# Altium schematic symbol library FPGA_Xilinx_Virtex7.SchLib: 34 symbols (part 13 of 26)
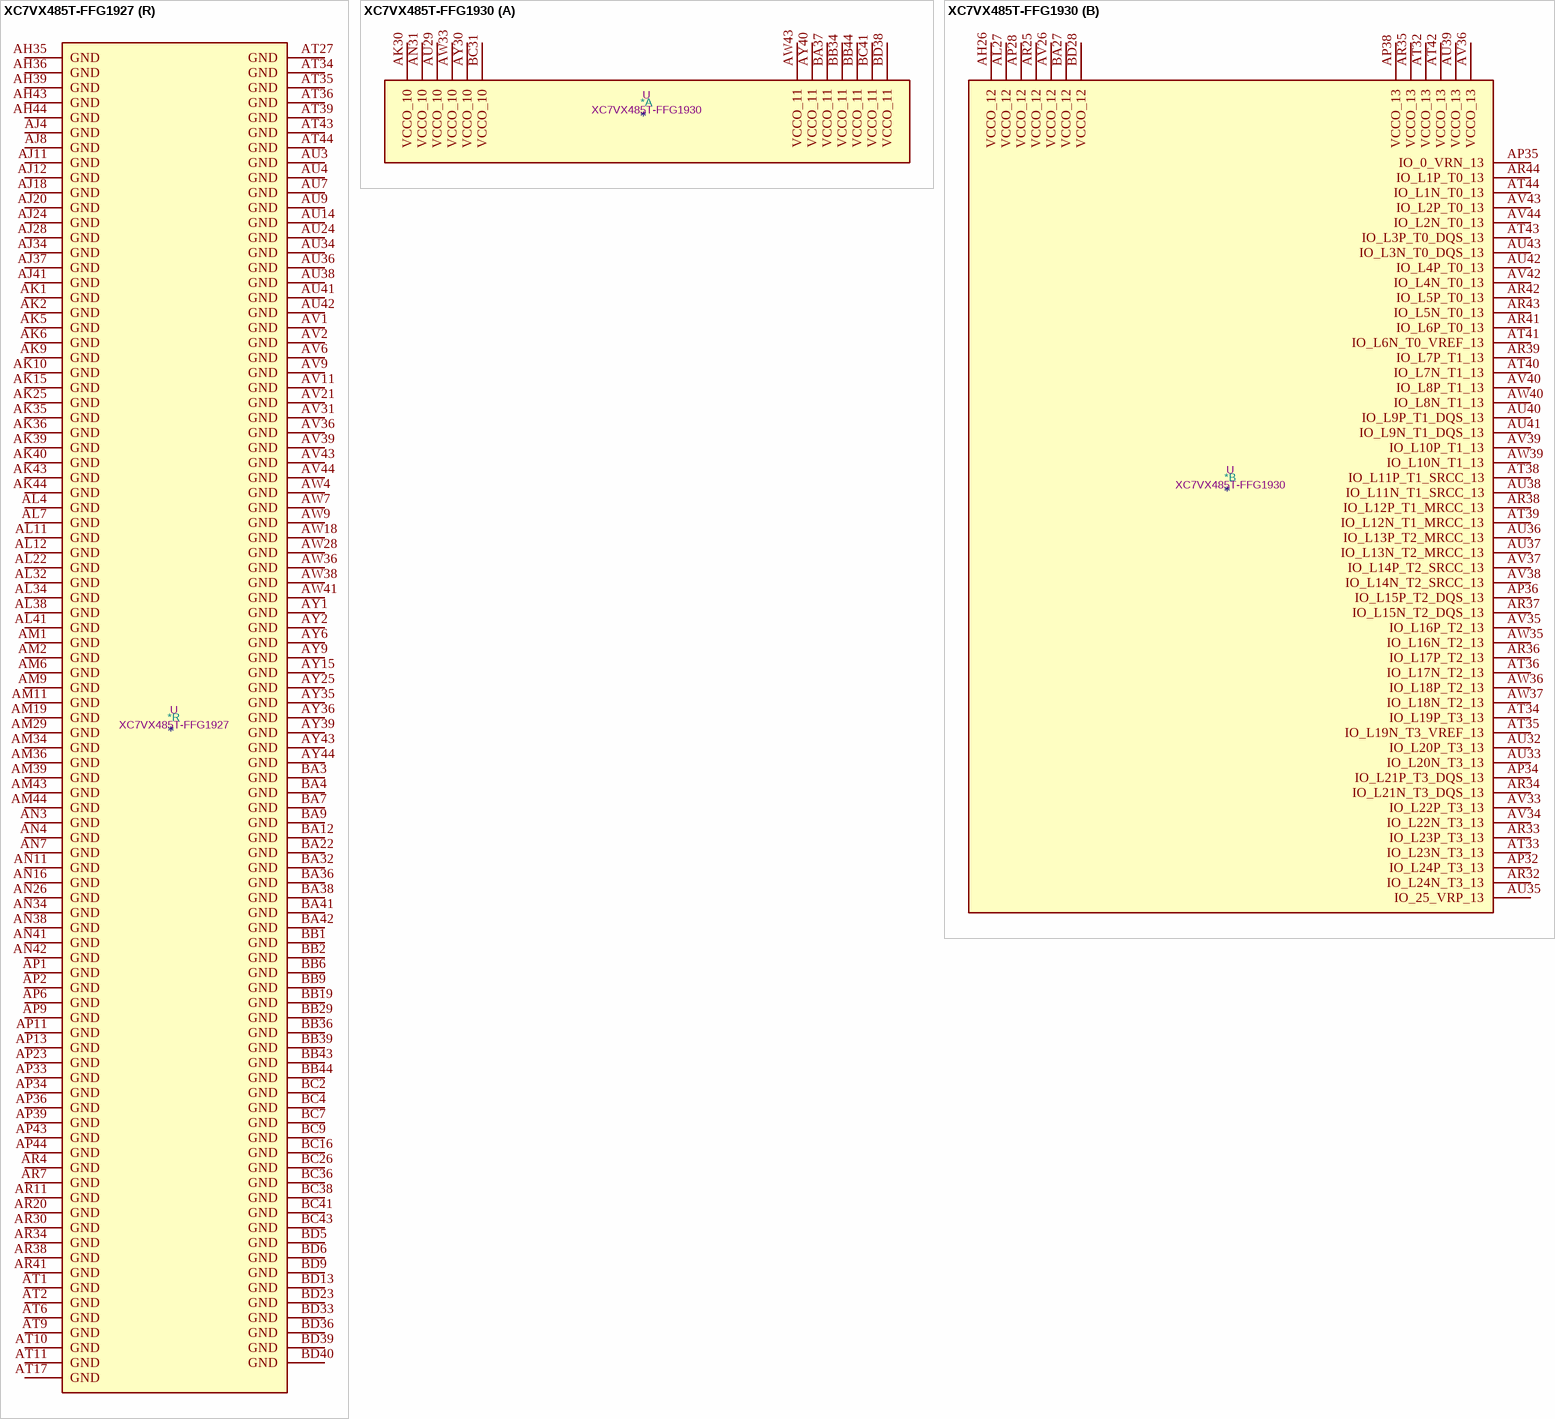
[diagram p184: symbols XC7VX485T-FFG1927 to XC7VX485T-FFG1930]

## XC7VX485T-FFG1927
designator *  value XC7VX485T-FFG1927  Reference: U
Virtex 7 XT 485 XC7VX485T-FFG1927; ki_keywords: FPGA; Description_: Virtex 7 XT 485 XC7VX485T-FFG1927
part A pins: AJ23 VCCO_15, AJ25 IO_L24P_T3_RS1_15, AJ26 IO_L24N_T3_RS0_15, AJ29 IO_L23P_T3_A03_D19_14, AK23 IO_L21P_T3_DQS_15, AK24 IO_L21N_T3_DQS_A18_15, AK26 IO_L22P_T3_A17_15, AK27 IO_L21P_T3_DQS_14, AK28 IO_L21N_T3_DQS_A06_D22_14, AK29 IO_L23N_T3_A02_D18_14, AL23 IO_L19P_T3_A22_15, AL24 IO_L23P_T3_FOE_B_15, AL25 IO_L23N_T3_FWE_B_15, AL26 IO_L22N_T3_A16_15, AL27 VCCO_14, AL28 IO_L24P_T3_A01_D17_14, AL29 IO_L24N_T3_A00_D16_14, AM23 IO_L19N_T3_A21_VREF_15, AM24 VCCO_15, AM25 IO_L20P_T3_A20_15, AM26 IO_L20N_T3_A19_15, AM27 IO_L22P_T3_A05_D21_14, AM28 IO_L22N_T3_A04_D20_14, AM30 IO_L20P_T3_A08_D24_14, AN23 IO_L15P_T2_DQS_15, AN24 IO_L15N_T2_DQS_ADV_B_15, AN25 IO_L18P_T2_A24_15, AN27 IO_L15P_T2_DQS_RDWR_B_14, AN28 IO_L19P_T3_A10_D26_14, AN29 IO_L19N_T3_A09_D25_VREF_14, AN30 IO_L20N_T3_A07_D23_14, AP24 IO_L17P_T2_A26_15, AP25 IO_L17N_T2_A25_15, AP26 IO_L18N_T2_A23_15, AP27 IO_L15N_T2_DQS_DOUT_CSO_B_14, AP28 VCCO_14, AP29 IO_L17P_T2_A14_D30_14, AP30 IO_L17N_T2_A13_D29_14, AR24 IO_0_VRN_15, AR25 VCCO_15, AR26 IO_25_VRP_15, AR27 IO_25_VRP_14, AR28 IO_L18P_T2_A12_D28_14, AR29 IO_L18N_T2_A11_D27_14, AT23 IO_L13P_T2_MRCC_15, AT24 IO_L14P_T2_SRCC_15, AT25 IO_L14N_T2_SRCC_15, AT26 IO_L16P_T2_A28_15, AT28 IO_L16P_T2_CSI_B_14, AT29 IO_L16N_T2_A15_D31_14, AT30 IO_0_VRN_14, AU23 IO_L13N_T2_MRCC_15, AU25 IO_L12P_T1_MRCC_15, AU26 IO_L12N_T1_MRCC_15, AU27 IO_L16N_T2_A27_15, AU28 IO_L14P_T2_SRCC_14, AU29 VCCO_14, AU30 IO_L13P_T2_MRCC_14, AV23 IO_L11P_T1_SRCC_15, AV24 IO_L11N_T1_SRCC_15, AV25 IO_L9P_T1_DQS_AD3P_15, AV26 VCCO_15, AV27 IO_L12P_T1_MRCC_14, AV28 IO_L12N_T1_MRCC_14, AV29 IO_L14N_T2_SRCC_14, AV30 IO_L13N_T2_MRCC_14, AW23 VCCO_15, AW24 IO_L10P_T1_AD11P_15, AW25 IO_L9N_T1_DQS_AD3N_15, AW26 IO_L7P_T1_AD2P_15, AW27 IO_L8P_T1_D11_14, AW29 IO_L7P_T1_D09_14, AW30 IO_L11P_T1_SRCC_14, AW31 IO_L11N_T1_SRCC_14, AY23 IO_L8P_T1_AD10P_15, AY24 IO_L10N_T1_AD11N_15, AY26 IO_L7N_T1_AD2N_15, AY27 IO_L8N_T1_D12_14, AY28 IO_L10P_T1_D14_14, AY29 IO_L7N_T1_D10_14, AY30 VCCO_14, AY31 IO_L9P_T1_DQS_14, BA23 IO_L8N_T1_AD10N_15, BA24 IO_L6P_T0_15, BA25 IO_L6N_T0_VREF_15, BA26 IO_L5P_T0_AD9P_15, BA27 VCCO_14, BA28 IO_L10N_T1_D15_14, BA29 IO_L6P_T0_FCS_B_14, BA30 IO_L6N_T0_D08_VREF_14, BA31 IO_L9N_T1_DQS_D13_14, BB23 IO_L2P_T0_AD8P_15, BB24 VCCO_15, BB25 IO_L3P_T0_DQS_AD1P_15, BB26 IO_L5N_T0_AD9N_15, BB27 IO_L3P_T0_DQS_PUDC_B_14, BB28 IO_L3N_T0_DQS_EMCCLK_14, BB30 IO_L4P_T0_D04_14, BC23 IO_L2N_T0_AD8N_15, BC24 IO_L4P_T0_15, BC25 IO_L3N_T0_DQS_AD1N_15, BC27 IO_L1P_T0_D00_MOSI_14, BC28 IO_L5P_T0_D06_14, BC29 IO_L5N_T0_D07_14, BC30 IO_L4N_T0_D05_14, BD24 IO_L4N_T0_15, BD25 IO_L1P_T0_AD0P_15, BD26 IO_L1N_T0_AD0N_15, BD27 IO_L1N_T0_D01_DIN_14, BD28 VCCO_14, BD29 IO_L2P_T0_D02_14, BD30 IO_L2N_T0_D03_14
part B pins: A23 IO_L1N_T0_17, A24 IO_L4P_T0_17, A25 IO_L4N_T0_17, AJ30 IO_L2P_T0_16, AJ31 IO_L2N_T0_16, AJ32 IO_L4P_T0_16, AK30 VCCO_16, AK31 IO_L3P_T0_DQS_16, AK32 IO_L4N_T0_16, AK33 IO_L1P_T0_16, AL30 IO_L5P_T0_16, AL31 IO_L3N_T0_DQS_16, AL33 IO_L1N_T0_16, AM31 IO_L5N_T0_16, AM32 IO_L6P_T0_16, AM33 IO_L6N_T0_VREF_16, AN31 VCCO_16, AN32 IO_L7P_T1_16, AN33 IO_L7N_T1_16, AP31 IO_L9P_T1_DQS_16, AP32 IO_L9N_T1_DQS_16, AR31 IO_L10P_T1_16, AR32 IO_L10N_T1_16, AR33 IO_L8P_T1_16, AT31 IO_25_VRP_16, AT32 VCCO_16, AT33 IO_L8N_T1_16, AU31 IO_L11P_T1_SRCC_16, AU32 IO_L11N_T1_SRCC_16, AU33 IO_L12P_T1_MRCC_16, AU35 IO_0_VRN_16, AV32 IO_L13P_T2_MRCC_16, AV33 IO_L12N_T1_MRCC_16, AV34 IO_L14P_T2_SRCC_16, AV35 IO_L14N_T2_SRCC_16, AW32 IO_L13N_T2_MRCC_16, AW33 VCCO_16, AW34 IO_L15P_T2_DQS_16, AW35 IO_L15N_T2_DQS_16, AY32 IO_L18P_T2_16, AY33 IO_L16P_T2_16, AY34 IO_L16N_T2_16, B23 IO_L1P_T0_17, B24 VCCO_17, B25 IO_L2N_T0_17, BA33 IO_L18N_T2_16, BA34 IO_L17P_T2_16, BA35 IO_L17N_T2_16, BB31 IO_L19P_T3_16, BB32 IO_L19N_T3_VREF_16, BB33 IO_L22P_T3_16, BB34 VCCO_16, BB35 IO_L20P_T3_16, BC31 VCCO_16, BC32 IO_L21P_T3_DQS_16, BC33 IO_L21N_T3_DQS_16, BC34 IO_L22N_T3_16, BC35 IO_L20N_T3_16, BD31 IO_L23P_T3_16, BD32 IO_L23N_T3_16, BD34 IO_L24P_T3_16, BD35 IO_L24N_T3_16, C23 IO_L3P_T0_DQS_17, C24 IO_L3N_T0_DQS_17, C25 IO_L2P_T0_17, D24 IO_L5P_T0_17, D25 IO_L5N_T0_17, E23 IO_L6P_T0_17, E24 IO_L6N_T0_VREF_17, E25 VCCO_17, F23 IO_L7N_T1_17, F24 IO_L8P_T1_17, F25 IO_L8N_T1_17, G23 IO_L7P_T1_17, G25 IO_L10P_T1_17, G26 IO_L10N_T1_17, H23 IO_L9P_T1_DQS_17, H24 IO_L9N_T1_DQS_17, H25 IO_L11N_T1_SRCC_17, H26 VCCO_17, J23 VCCO_17, J24 IO_L11P_T1_SRCC_17, J25 IO_L12P_T1_MRCC_17, J26 IO_L12N_T1_MRCC_17, K23 IO_L13P_T2_MRCC_17, K24 IO_L13N_T2_MRCC_17, K26 IO_L15N_T2_DQS_17, L23 IO_L18N_T2_17, L24 IO_L14P_T2_SRCC_17, L25 IO_L14N_T2_SRCC_17, L26 IO_L15P_T2_DQS_17, M23 IO_L18P_T2_17, M24 VCCO_17, M25 IO_L17N_T2_17, M26 IO_0_VRN_17, N23 IO_L16P_T2_17, N24 IO_L16N_T2_17, N25 IO_L17P_T2_17, P24 IO_25_VRP_17, P25 IO_L20P_T3_17, P26 IO_L20N_T3_17, R23 IO_L24P_T3_17, R24 IO_L24N_T3_17, R25 VCCO_17, R26 IO_L22N_T3_17, T23 IO_L23N_T3_17, T24 IO_L19P_T3_17, T25 IO_L19N_T3_VREF_17, T26 IO_L22P_T3_17, U23 IO_L23P_T3_17, U25 IO_L21P_T3_DQS_17, U26 IO_L21N_T3_DQS_17
part C pins: A26 IO_L5N_T0_19, A27 VCCO_19, A28 IO_L1P_T0_19, A29 IO_L1N_T0_19, A30 IO_L3P_T0_DQS_18, A31 IO_L3N_T0_DQS_18, A33 IO_L2N_T0_18, B26 IO_L5P_T0_19, B27 IO_L3N_T0_DQS_19, B28 IO_L4N_T0_19, B30 IO_L1N_T0_18, B31 IO_L5P_T0_18, B32 IO_L5N_T0_18, B33 IO_L2P_T0_18, C27 IO_L3P_T0_DQS_19, C28 IO_L4P_T0_19, C29 IO_L2N_T0_19, C30 IO_L1P_T0_18, C31 VCCO_18, C32 IO_L4P_T0_18, C33 IO_L4N_T0_18, D26 IO_L6P_T0_19, D27 IO_L6N_T0_VREF_19, D28 VCCO_19, D29 IO_L2P_T0_19, D30 IO_L6P_T0_18, D31 IO_L6N_T0_VREF_18, D32 IO_L7N_T1_18, E26 IO_L8N_T1_19, E27 IO_L10P_T1_19, E28 IO_L10N_T1_19, E29 IO_L9N_T1_DQS_19, E31 IO_L7P_T1_18, E32 IO_L8P_T1_18, E33 IO_L8N_T1_18, F26 IO_L8P_T1_19, F28 IO_L7N_T1_19, F29 IO_L9P_T1_DQS_19, F30 IO_L9P_T1_DQS_18, F31 IO_L9N_T1_DQS_18, F32 VCCO_18, F33 IO_L10N_T1_18, G27 IO_L11N_T1_SRCC_19, G28 IO_L7P_T1_19, G29 VCCO_19, G30 IO_L12N_T1_MRCC_18, G31 IO_L11P_T1_SRCC_18, G32 IO_L11N_T1_SRCC_18, G33 IO_L10P_T1_18, H27 IO_L11P_T1_SRCC_19, H28 IO_L12P_T1_MRCC_19, H29 IO_L12N_T1_MRCC_19, H30 IO_L12P_T1_MRCC_18, H32 IO_L13P_T2_MRCC_18, H33 IO_L13N_T2_MRCC_18, J27 IO_L13N_T2_MRCC_19, J29 IO_L14N_T2_SRCC_19, J30 IO_L14P_T2_SRCC_18, J31 IO_L14N_T2_SRCC_18, J32 IO_L16N_T2_18, J33 VCCO_18, K27 IO_L13P_T2_MRCC_19, K28 IO_L14P_T2_SRCC_19, K29 IO_L16N_T2_19, K30 VCCO_18, K31 IO_L15N_T2_DQS_18, K32 IO_L16P_T2_18, K33 IO_L18N_T2_18, L27 VCCO_19, L28 IO_L16P_T2_19, L29 IO_L18N_T2_19, L30 IO_0_VRN_18, L31 IO_L15P_T2_DQS_18, L33 IO_L18P_T2_18, M27 IO_0_VRN_19, M28 IO_L18P_T2_19, M30 IO_L15N_T2_DQS_19, M31 IO_L17P_T2_18, M32 IO_L17N_T2_18, M33 IO_L20N_T3_18, N27 IO_25_VRP_19, N28 IO_L17P_T2_19, N29 IO_L17N_T2_19, N30 IO_L15P_T2_DQS_19, N31 VCCO_18, N32 IO_L22N_T3_18, N33 IO_L20P_T3_18, P27 IO_L23N_T3_19, P28 VCCO_19, P29 IO_L19P_T3_19, P30 IO_L19N_T3_VREF_19, P31 IO_L22P_T3_18, P32 IO_L19N_T3_VREF_18, R27 IO_L23P_T3_19, R28 IO_L21P_T3_DQS_19, R29 IO_L21N_T3_DQS_19, R31 IO_L21N_T3_DQS_18, R32 IO_L19P_T3_18, R33 IO_L24N_T3_18, T28 IO_L20P_T3_19, T29 IO_L20N_T3_19, T30 IO_L22N_T3_19, T31 IO_L21P_T3_DQS_18, T32 VCCO_18, T33 IO_L24P_T3_18, U27 IO_L24P_T3_19, U28 IO_L24N_T3_19, U29 VCCO_19, U30 IO_L22P_T3_19, U31 IO_25_VRP_18, U32 IO_L23P_T3_18, U33 IO_L23N_T3_18
part D pins: AJ16 IO_L23P_T3_34, AJ21 IO_L20N_T3_35, AJ22 IO_L20P_T3_35, AK16 IO_L23N_T3_34, AK17 IO_25_VRP_34, AK18 IO_L21P_T3_DQS_34, AK19 IO_L24P_T3_35, AK20 VCCO_35, AK21 IO_L22N_T3_35, AK22 IO_L22P_T3_35, AL15 IO_L24N_T3_34, AL16 IO_L24P_T3_34, AL17 VCCO_34, AL18 IO_L21N_T3_DQS_34, AL19 IO_L24N_T3_35, AL20 IO_L23N_T3_35, AL21 IO_L23P_T3_35, AM15 IO_L20P_T3_34, AM16 IO_L22N_T3_34, AM17 IO_L22P_T3_34, AM18 IO_L19P_T3_34, AM20 IO_L21P_T3_DQS_35, AM21 IO_L19N_T3_VREF_35, AM22 IO_L19P_T3_35, AN15 IO_L20N_T3_34, AN17 IO_L18P_T2_34, AN18 IO_L19N_T3_VREF_34, AN19 IO_L21N_T3_DQS_35, AN20 IO_L17P_T2_35, AN21 VCCO_35, AN22 IO_L18P_T2_35, AP15 IO_0_VRN_34, AP16 IO_L15P_T2_DQS_34, AP17 IO_L18N_T2_34, AP18 VCCO_34, AP19 IO_L17N_T2_35, AP20 IO_L15N_T2_DQS_35, AP21 IO_L15P_T2_DQS_35, AP22 IO_L18N_T2_35, AR15 VCCO_34, AR16 IO_L15N_T2_DQS_34, AR17 IO_L16N_T2_34, AR18 IO_L16P_T2_34, AR19 IO_25_VRP_35, AR21 IO_L16N_T2_35, AR22 IO_L16P_T2_35, AR23 IO_0_VRN_35, AT15 IO_L17N_T2_34, AT16 IO_L17P_T2_34, AT18 IO_L13P_T2_MRCC_34, AT19 IO_L14N_T2_SRCC_35, AT20 IO_L14P_T2_SRCC_35, AT21 IO_L13P_T2_MRCC_35, AT22 VCCO_35, AU15 IO_L12P_T1_MRCC_34, AU16 IO_L14N_T2_SRCC_34, AU17 IO_L14P_T2_SRCC_34, AU18 IO_L13N_T2_MRCC_34, AU19 VCCO_35, AU20 IO_L12P_T1_MRCC_35, AU21 IO_L13N_T2_MRCC_35, AU22 IO_L11P_T1_SRCC_35, AV15 IO_L12N_T1_MRCC_34, AV16 VCCO_34, AV17 IO_L11N_T1_SRCC_34, AV18 IO_L11P_T1_SRCC_34, AV19 IO_L12N_T1_MRCC_35, AV20 IO_L8P_T1_AD14P_35, AV22 IO_L11N_T1_SRCC_35, AW15 IO_L9N_T1_DQS_34, AW16 IO_L9P_T1_DQS_34, AW17 IO_L7P_T1_34, AW19 IO_L10P_T1_AD15P_35, AW20 IO_L8N_T1_AD14N_35, AW21 IO_L9P_T1_DQS_AD7P_35, AW22 IO_L7P_T1_AD6P_35, AY16 IO_L7N_T1_34, AY17 IO_L8N_T1_34, AY18 IO_L8P_T1_34, AY19 IO_L10N_T1_AD15N_35, AY20 VCCO_35, AY21 IO_L9N_T1_DQS_AD7N_35, AY22 IO_L7N_T1_AD6N_35, BA15 IO_L10N_T1_34, BA16 IO_L10P_T1_34, BA17 VCCO_34, BA18 IO_L1P_T0_34, BA19 IO_L6N_T0_VREF_35, BA20 IO_L6P_T0_35, BA21 IO_L5P_T0_AD13P_35, BB15 IO_L6N_T0_VREF_34, BB16 IO_L6P_T0_34, BB17 IO_L3P_T0_DQS_34, BB18 IO_L1N_T0_34, BB20 IO_L5N_T0_AD13N_35, BB21 IO_L1N_T0_AD4N_35, BB22 IO_L1P_T0_AD4P_35, BC15 IO_L5P_T0_34, BC17 IO_L3N_T0_DQS_34, BC18 IO_L2N_T0_34, BC19 IO_L2P_T0_34, BC20 IO_L3P_T0_DQS_AD5P_35, BC21 VCCO_35, BC22 IO_L2P_T0_AD12P_35, BD15 IO_L5N_T0_34, BD16 IO_L4N_T0_34, BD17 IO_L4P_T0_34, BD18 VCCO_34, BD19 IO_L3N_T0_DQS_AD5N_35, BD20 IO_L4N_T0_35, BD21 IO_L4P_T0_35, BD22 IO_L2N_T0_AD12N_35
part E pins: A20 IO_L2N_T0_37, A21 IO_L1N_T0_37, AJ13 VCCO_36, AJ14 IO_L1P_T0_36, AK12 IO_L3N_T0_DQS_36, AK13 IO_L3P_T0_DQS_36, AK14 IO_L1N_T0_36, AL13 IO_L5N_T0_36, AL14 IO_L5P_T0_36, AM12 IO_L2N_T0_36, AM13 IO_L2P_T0_36, AM14 VCCO_36, AN12 IO_L4N_T0_36, AN13 IO_L4P_T0_36, AN14 IO_L6P_T0_36, AP12 IO_0_VRN_36, AP14 IO_L6N_T0_VREF_36, AR12 IO_L7N_T1_36, AR13 IO_L7P_T1_36, AR14 IO_25_VRP_36, AT12 VCCO_36, AT13 IO_L9N_T1_DQS_36, AT14 IO_L9P_T1_DQS_36, AU10 IO_L10P_T1_36, AU11 IO_L8N_T1_36, AU12 IO_L8P_T1_36, AU13 IO_L12P_T1_MRCC_36, AV10 IO_L10N_T1_36, AV12 IO_L11P_T1_SRCC_36, AV13 IO_L12N_T1_MRCC_36, AV14 IO_L13P_T2_MRCC_36, AW10 IO_L14N_T2_SRCC_36, AW11 IO_L14P_T2_SRCC_36, AW12 IO_L11N_T1_SRCC_36, AW13 VCCO_36, AW14 IO_L13N_T2_MRCC_36, AY10 VCCO_36, AY11 IO_L16N_T2_36, AY12 IO_L16P_T2_36, AY13 IO_L15P_T2_DQS_36, AY14 IO_L18P_T2_36, B20 IO_L2P_T0_37, B21 IO_L1P_T0_37, B22 IO_L3N_T0_DQS_37, BA10 IO_L17N_T2_36, BA11 IO_L17P_T2_36, BA13 IO_L15N_T2_DQS_36, BA14 IO_L18N_T2_36, BB10 IO_L19N_T3_VREF_36, BB11 IO_L19P_T3_36, BB12 IO_L20P_T3_36, BB13 IO_L22P_T3_36, BB14 VCCO_36, BC10 IO_L24P_T3_36, BC11 VCCO_36, BC12 IO_L20N_T3_36, BC13 IO_L22N_T3_36, BC14 IO_L23P_T3_36, BD10 IO_L24N_T3_36, BD11 IO_L21N_T3_DQS_36, BD12 IO_L21P_T3_DQS_36, BD14 IO_L23N_T3_36, C20 IO_L4N_T0_37, C21 VCCO_37, C22 IO_L3P_T0_DQS_37, D20 IO_L4P_T0_37, D21 IO_L5N_T0_37, D22 IO_L5P_T0_37, E21 IO_L6N_T0_VREF_37, E22 IO_L6P_T0_37, F19 IO_L8N_T1_37, F20 IO_L8P_T1_37, F21 IO_L7N_T1_37, F22 VCCO_37, G19 VCCO_37, G20 IO_L12N_T1_MRCC_37, G21 IO_L7P_T1_37, G22 IO_L9N_T1_DQS_37, H19 IO_L10N_T1_37, H20 IO_L12P_T1_MRCC_37, H22 IO_L9P_T1_DQS_37, J19 IO_L10P_T1_37, J20 IO_L11N_T1_SRCC_37, J21 IO_L11P_T1_SRCC_37, J22 IO_L13N_T2_MRCC_37, K19 IO_L15N_T2_DQS_37, K20 VCCO_37, K21 IO_L14N_T2_SRCC_37, K22 IO_L13P_T2_MRCC_37, L19 IO_L15P_T2_DQS_37, L20 IO_L16N_T2_37, L21 IO_L14P_T2_SRCC_37, M20 IO_L16P_T2_37, M21 IO_25_VRP_37, M22 IO_L18N_T2_37, N19 IO_L17N_T2_37, N20 IO_L17P_T2_37, N21 VCCO_37, N22 IO_L18P_T2_37, P19 IO_0_VRN_37, P20 IO_L22N_T3_37, P21 IO_L22P_T3_37, P22 IO_L23N_T3_37, R19 IO_L20N_T3_37, R21 IO_L24N_T3_37, R22 IO_L23P_T3_37, T19 IO_L20P_T3_37, T20 IO_L19N_T3_VREF_37, T21 IO_L24P_T3_37, T22 VCCO_37, U19 VCCO_37, U20 IO_L19P_T3_37, U21 IO_L21N_T3_DQS_37, U22 IO_L21P_T3_DQS_37
part F pins: A13 IO_L4N_T0_38, A14 IO_L4P_T0_38, A15 IO_L2N_T0_38, A16 IO_L2N_T0_39, A17 VCCO_39, A18 IO_L5N_T0_39, A19 IO_L5P_T0_39, B12 IO_L3N_T0_DQS_38, B13 IO_L3P_T0_DQS_38, B14 VCCO_38, B15 IO_L2P_T0_38, B16 IO_L2P_T0_39, B17 IO_L4N_T0_39, B18 IO_L1N_T0_39, C12 IO_L5N_T0_38, C13 IO_L5P_T0_38, C14 IO_L1N_T0_38, C15 IO_L1P_T0_38, C17 IO_L4P_T0_39, C18 IO_L1P_T0_39, C19 IO_L3N_T0_DQS_39, D12 IO_L7N_T1_38, D14 IO_L6N_T0_VREF_38, D15 IO_L6P_T0_38, D16 IO_L6N_T0_VREF_39, D17 IO_L6P_T0_39, D18 VCCO_39, D19 IO_L3P_T0_DQS_39, E12 IO_L7P_T1_38, E13 IO_L8N_T1_38, E14 IO_L8P_T1_38, E15 VCCO_38, E16 IO_L7N_T1_39, E17 IO_L7P_T1_39, E18 IO_L10N_T1_39, E19 IO_L10P_T1_39, F12 VCCO_38, F13 IO_L10N_T1_38, F14 IO_L10P_T1_38, F15 IO_L9N_T1_DQS_38, F16 IO_L9N_T1_DQS_39, F18 IO_L8N_T1_39, G12 IO_L15N_T2_DQS_38, G13 IO_L11N_T1_SRCC_38, G15 IO_L9P_T1_DQS_38, G16 IO_L9P_T1_DQS_39, G17 IO_L12N_T1_MRCC_39, G18 IO_L8P_T1_39, H12 IO_L15P_T2_DQS_38, H13 IO_L11P_T1_SRCC_38, H14 IO_L12N_T1_MRCC_38, H15 IO_L12P_T1_MRCC_38, H16 VCCO_39, H17 IO_L11N_T1_SRCC_39, H18 IO_L12P_T1_MRCC_39, J12 IO_L18N_T2_38, J13 VCCO_38, J14 IO_L13N_T2_MRCC_38, J15 IO_L13P_T2_MRCC_38, J16 IO_L13N_T2_MRCC_39, J17 IO_L11P_T1_SRCC_39, K12 IO_L18P_T2_38, K13 IO_L14N_T2_SRCC_38, K14 IO_L14P_T2_SRCC_38, K16 IO_L14N_T2_SRCC_39, K17 IO_L13P_T2_MRCC_39, K18 IO_0_VRN_39, L13 IO_L16N_T2_38, L14 IO_L17N_T2_38, L15 IO_0_VRN_38, L16 IO_L14P_T2_SRCC_39, L17 VCCO_39, L18 IO_L16N_T2_39, M12 IO_L22N_T3_38, M13 IO_L16P_T2_38, M14 VCCO_38, M15 IO_L17P_T2_38, M16 IO_L18N_T2_39, M17 IO_L18P_T2_39, M18 IO_L16P_T2_39, N12 IO_L22P_T3_38, N13 IO_L20N_T3_38, N14 IO_L20P_T3_38, N15 IO_L17N_T2_39, N17 IO_L15N_T2_DQS_39, N18 IO_25_VRP_39, P12 IO_L24N_T3_38, P14 IO_L19N_T3_VREF_38, P15 IO_L17P_T2_39, P16 IO_L20N_T3_39, P17 IO_L15P_T2_DQS_39, P18 VCCO_39, R12 IO_L24P_T3_38, R13 IO_L21N_T3_DQS_38, R14 IO_L19P_T3_38, R15 VCCO_39, R16 IO_L20P_T3_39, R17 IO_L22N_T3_39, R18 IO_L22P_T3_39, T12 VCCO_38, T13 IO_L23N_T3_38, T14 IO_L21P_T3_DQS_38, T15 IO_L19N_T3_VREF_39, T16 IO_L19P_T3_39, T18 IO_L23N_T3_39, U12 IO_25_VRP_38, U13 IO_L23P_T3_38, U15 IO_L24N_T3_39, U16 IO_L21N_T3_DQS_39, U17 IO_L21P_T3_DQS_39, U18 IO_L23P_T3_39, V15 IO_L24P_T3_39, V16 VCCO_39
part G pins: AA5 MGTXRXN2_114, AA6 MGTXRXP2_114, AA9 MGTREFCLK0N_114, AA10 MGTREFCLK0P_114, AB7 MGTREFCLK1N_114, AB8 MGTREFCLK1P_114, AC1 MGTXTXN3_114, AC2 MGTXTXP3_114, AC5 MGTXRXN1_114, AC6 MGTXRXP1_114, AD3 MGTXTXN2_114, AD4 MGTXTXP2_114, AD7 MGTXRXN0_114, AD8 MGTXRXP0_114, AE1 MGTXTXN1_114, AE2 MGTXTXP1_114, AE5 MGTXRXN3_113, AE6 MGTXRXP3_113, AF3 MGTXTXN0_114, AF4 MGTXTXP0_114, AF7 MGTREFCLK0N_113, AF8 MGTREFCLK0P_113, AG1 MGTXTXN3_113, AG2 MGTXTXP3_113, AG5 MGTXRXN2_113, AG6 MGTXRXP2_113, AH3 MGTXTXN2_113, AH4 MGTXTXP2_113, AH7 MGTREFCLK1N_113, AH8 MGTREFCLK1P_113, AJ1 MGTXTXN1_113, AJ2 MGTXTXP1_113, AJ5 MGTXRXN1_113, AJ6 MGTXRXP1_113, AK3 MGTXTXN0_113, AK4 MGTXTXP0_113, AK7 MGTXRXN0_113, AK8 MGTXRXP0_113, Y7 MGTXRXN3_114, Y8 MGTXRXP3_114
part H pins: AA1 MGTXTXN1_115, AA2 MGTXTXP1_115, AB3 MGTXTXN0_115, AB4 MGTXTXP0_115, M7 MGTXRXN3_116, M8 MGTXRXP3_116, N5 MGTXRXN2_116, N6 MGTXRXP2_116, N9 MGTREFCLK0N_116, N10 MGTREFCLK0P_116, P7 MGTXRXN1_116, P8 MGTXRXP1_116, R1 MGTXTXN3_116, R2 MGTXTXP3_116, R5 MGTXRXN0_116, R6 MGTXRXP0_116, R9 MGTREFCLK1N_116, R10 MGTREFCLK1P_116, T3 MGTXTXN2_116, T4 MGTXTXP2_116, T7 MGTXRXN3_115, T8 MGTXRXP3_115, U1 MGTXTXN1_116, U2 MGTXTXP1_116, U5 MGTXRXN2_115, U6 MGTXRXP2_115, U9 MGTREFCLK0N_115, U10 MGTREFCLK0P_115, V3 MGTXTXN0_116, V4 MGTXTXP0_116, V7 MGTXRXN1_115, V8 MGTXRXP1_115, W1 MGTXTXN3_115, W2 MGTXTXP3_115, W5 MGTXRXN0_115, W6 MGTXRXP0_115, W9 MGTREFCLK1N_115, W10 MGTREFCLK1P_115, Y3 MGTXTXN2_115, Y4 MGTXTXP2_115
part I pins: D7 MGTXRXN3_118, D8 MGTXRXP3_118, E5 MGTXRXN2_118, E6 MGTXRXP2_118, E9 MGTREFCLK0N_118, E10 MGTREFCLK0P_118, F7 MGTXRXN1_118, F8 MGTXRXP1_118, G1 MGTXTXN3_118, G2 MGTXTXP3_118, G5 MGTXRXN0_118, G6 MGTXRXP0_118, G9 MGTREFCLK1N_118, G10 MGTREFCLK1P_118, H3 MGTXTXN2_118, H4 MGTXTXP2_118, H7 MGTXRXN3_117, H8 MGTXRXP3_117, J1 MGTXTXN1_118, J2 MGTXTXP1_118, J5 MGTXRXN2_117, J6 MGTXRXP2_117, J9 MGTREFCLK0N_117, J10 MGTREFCLK0P_117, K3 MGTXTXN0_118, K4 MGTXTXP0_118, K7 MGTXRXN1_117, K8 MGTXRXP1_117, L1 MGTXTXN3_117, L2 MGTXTXP3_117, L5 MGTXRXN0_117, L6 MGTXRXP0_117, L9 MGTREFCLK1N_117, L10 MGTREFCLK1P_117, M3 MGTXTXN2_117, M4 MGTXTXP2_117, N1 MGTXTXN1_117, N2 MGTXTXP1_117, P3 MGTXTXN0_117, P4 MGTXTXP0_117
part J pins: A5 MGTXRXN3_119, A6 MGTXRXP3_119, A9 MGTREFCLK0N_119, A10 MGTREFCLK0P_119, AE39 MGTXRXP3_213, AE40 MGTXRXN3_213, AF37 MGTREFCLK0P_213, AF38 MGTREFCLK0N_213, AG39 MGTXRXP2_213, AG40 MGTXRXN2_213, AG43 MGTXTXP3_213, AG44 MGTXTXN3_213, AH37 MGTREFCLK1P_213, AH38 MGTREFCLK1N_213, AH41 MGTXTXP2_213, AH42 MGTXTXN2_213, AJ39 MGTXRXP1_213, AJ40 MGTXRXN1_213, AJ43 MGTXTXP1_213, AJ44 MGTXTXN1_213, AK37 MGTXRXP0_213, AK38 MGTXRXN0_213, AK41 MGTXTXP0_213, AK42 MGTXTXN0_213, B3 MGTXTXN3_119, B4 MGTXTXP3_119, B7 MGTXRXN2_119, B8 MGTXRXP2_119, C1 MGTXTXN2_119, C2 MGTXTXP2_119, C5 MGTXRXN1_119, C6 MGTXRXP1_119, C9 MGTREFCLK1N_119, C10 MGTREFCLK1P_119, D3 MGTXRXN0_119, D4 MGTXRXP0_119, E1 MGTXTXN1_119, E2 MGTXTXP1_119, F3 MGTXTXN0_119, F4 MGTXTXP0_119
part K pins: AA35 MGTREFCLK0P_214, AA36 MGTREFCLK0N_214, AA39 MGTXRXP2_214, AA40 MGTXRXN2_214, AA43 MGTXTXP1_215, AA44 MGTXTXN1_215, AB37 MGTREFCLK1P_214, AB38 MGTREFCLK1N_214, AB41 MGTXTXP0_215, AB42 MGTXTXN0_215, AC39 MGTXRXP1_214, AC40 MGTXRXN1_214, AC43 MGTXTXP3_214, AC44 MGTXTXN3_214, AD37 MGTXRXP0_214, AD38 MGTXRXN0_214, AD41 MGTXTXP2_214, AD42 MGTXTXN2_214, AE43 MGTXTXP1_214, AE44 MGTXTXN1_214, AF41 MGTXTXP0_214, AF42 MGTXTXN0_214, T37 MGTXRXP3_215, T38 MGTXRXN3_215, U35 MGTREFCLK0P_215, U36 MGTREFCLK0N_215, U39 MGTXRXP2_215, U40 MGTXRXN2_215, V37 MGTXRXP1_215, V38 MGTXRXN1_215, W35 MGTREFCLK1P_215, W36 MGTREFCLK1N_215, W39 MGTXRXP0_215, W40 MGTXRXN0_215, W43 MGTXTXP3_215, W44 MGTXTXN3_215, Y37 MGTXRXP3_214, Y38 MGTXRXN3_214, Y41 MGTXTXP2_215, Y42 MGTXTXN2_215
part L pins: H37 MGTXRXP3_217, H38 MGTXRXN3_217, J35 MGTREFCLK0P_217, J36 MGTREFCLK0N_217, J39 MGTXRXP2_217, J40 MGTXRXN2_217, K37 MGTXRXP1_217, K38 MGTXRXN1_217, L35 MGTREFCLK1P_217, L36 MGTREFCLK1N_217, L39 MGTXRXP0_217, L40 MGTXRXN0_217, L43 MGTXTXP3_217, L44 MGTXTXN3_217, M37 MGTXRXP3_216, M38 MGTXRXN3_216, M41 MGTXTXP2_217, M42 MGTXTXN2_217, N35 MGTREFCLK0P_216, N36 MGTREFCLK0N_216, N39 MGTXRXP2_216, N40 MGTXRXN2_216, N43 MGTXTXP1_217, N44 MGTXTXN1_217, P37 MGTXRXP1_216, P38 MGTXRXN1_216, P41 MGTXTXP0_217, P42 MGTXTXN0_217, R35 MGTREFCLK1P_216, R36 MGTREFCLK1N_216, R39 MGTXRXP0_216, R40 MGTXRXN0_216, R43 MGTXTXP3_216, R44 MGTXTXN3_216, T41 MGTXTXP2_216, T42 MGTXTXN2_216, U43 MGTXTXP1_216, U44 MGTXTXN1_216, V41 MGTXTXP0_216, V42 MGTXTXN0_216
part M pins: A35 MGTREFCLK0P_219, A36 MGTREFCLK0N_219, A39 MGTXRXP3_219, A40 MGTXRXN3_219, B37 MGTXRXP2_219, B38 MGTXRXN2_219, B41 MGTXTXP3_219, B42 MGTXTXN3_219, C35 MGTREFCLK1P_219, C36 MGTREFCLK1N_219, C39 MGTXRXP1_219, C40 MGTXRXN1_219, C43 MGTXTXP2_219, C44 MGTXTXN2_219, D37 MGTXRXP3_218, D38 MGTXRXN3_218, D41 MGTXRXP0_219, D42 MGTXRXN0_219, E35 MGTREFCLK0P_218, E36 MGTREFCLK0N_218, E39 MGTXRXP2_218, E40 MGTXRXN2_218, E43 MGTXTXP1_219, E44 MGTXTXN1_219, F37 MGTXRXP1_218, F38 MGTXRXN1_218, F41 MGTXTXP0_219, F42 MGTXTXN0_219, G35 MGTREFCLK1P_218, G36 MGTREFCLK1N_218, G39 MGTXRXP0_218, G40 MGTXRXN0_218, G43 MGTXTXP3_218, G44 MGTXTXN3_218, H41 MGTXTXP2_218, H42 MGTXTXN2_218, J43 MGTXTXP1_218, J44 MGTXTXN1_218, K41 MGTXTXP0_218, K42 MGTXTXN0_218
part N pins: AA8 MGTAVCC_G10, AA37 MGTAVCC_G20, AB5 MGTAVTT_G10, AB40 MGTAVTT_G20, AC3 MGTAVTT_G10, AC7 MGTAVCC_G10, AC9 MGTRREF_115, AC10 MGTAVTTRCAL_115, AC35 MGTRREF_215, AC36 MGTAVTTRCAL_215, AC38 MGTAVCC_G20, AC42 MGTAVTT_G20, AD5 MGTAVTT_G10, AD40 MGTAVTT_G20, AE8 MGTAVCC_G10, AE37 MGTAVCC_G20, AF5 MGTAVTT_G10, AF40 MGTAVTT_G20, AG3 MGTAVTT_G10, AG8 MGTAVCC_G10, AG37 MGTAVCC_G20, AG42 MGTAVTT_G20, AH5 MGTAVTT_G10, AH40 MGTAVTT_G20, AJ3 MGTAVTT_G10, AJ7 MGTAVCC_G10, AJ38 MGTAVCC_G20, AJ42 MGTAVTT_G20, AL3 MGTAVTT_G9, AL8 MGTAVCC_G9, AL37 MGTAVCC_G19, AL42 MGTAVTT_G19, AM5 MGTAVTT_G9, AM10 MGTVCCAUX_G9, AM35 MGTVCCAUX_G19, AM40 MGTAVTT_G19, AN8 MGTAVCC_G9, AN37 MGTAVCC_G19, AP5 MGTAVTT_G9, AP10 MGTAVCC_G9, AP35 MGTAVCC_G19, AP40 MGTAVTT_G19, AR3 MGTAVTT_G9, AR8 MGTAVCC_G9, AR37 MGTAVCC_G19, AR42 MGTAVTT_G19, AT5 MGTAVTT_G9, AT40 MGTAVTT_G19, AU8 MGTAVCC_G9, AU37 MGTAVCC_G19, AV5 MGTAVTT_G9, AV40 MGTAVTT_G19, AW3 MGTAVTT_G9, AW8 MGTAVCC_G9, AW37 MGTAVCC_G19, AW42 MGTAVTT_G19, AY5 MGTAVTT_G9, AY40 MGTAVTT_G19, B5 MGTAVTT_G11, B10 MGTAVCC_G11, B35 MGTAVCC_G21, B40 MGTAVTT_G21, BA8 MGTAVCC_G9, BA37 MGTAVCC_G19, BB5 MGTAVTT_G9, BB40 MGTAVTT_G19, BC3 MGTAVTT_G9, BC8 MGTAVCC_G9, BC37 MGTAVCC_G19, BC42 MGTAVTT_G19, C3 MGTAVTT_G11, C42 MGTAVTT_G21, D5 MGTAVTT_G11, D10 MGTAVCC_G11, D35 MGTAVCC_G21, D40 MGTAVTT_G21, F5 MGTAVTT_G11, F10 MGTAVCC_G11, F35 MGTAVCC_G21, F40 MGTAVTT_G21, G3 MGTAVTT_G11, G42 MGTAVTT_G21, H5 MGTAVTT_G11, H10 MGTAVCC_G11, H35 MGTAVCC_G21, H40 MGTAVTT_G21, K5 MGTAVTT_G11, K10 MGTAVCC_G11, K35 MGTAVCC_G21, K40 MGTAVTT_G21, L3 MGTAVTT_G11, L42 MGTAVTT_G21, M5 MGTAVTT_G11, M10 MGTAVCC_G11, M35 MGTAVCC_G21, M40 MGTAVTT_G21, P5 MGTAVTT_G11, P10 MGTVCCAUX_G11, P35 MGTVCCAUX_G21, P40 MGTAVTT_G21, R3 MGTAVTT_G10, R8 MGTAVCC_G10, R37 MGTAVCC_G20, R42 MGTAVTT_G20, T5 MGTAVTT_G10, T10 MGTVCCAUX_G10, T35 MGTVCCAUX_G20, T40 MGTAVTT_G20, U8 MGTAVCC_G10, U37 MGTAVCC_G20, V5 MGTAVTT_G10, V10 MGTVCCAUX_G10, V35 MGTVCCAUX_G20, V40 MGTAVTT_G20, W3 MGTAVTT_G10, W8 MGTAVCC_G10, W37 MGTAVCC_G20, W42 MGTAVTT_G20, Y5 MGTAVTT_G10, Y10 MGTAVCC_G10, Y35 MGTAVCC_G20, Y40 MGTAVTT_G20
part O pins: AC22 VREFN_0, AC23 VP_0, AD22 VN_0, AD23 VREFP_0, AE10 PROGRAM_B_0, AE11 DONE_0, AE12 VCCO_0, AE22 DXN_0, AE23 DXP_0, AE34 CCLK_0, AF10 M2_0, AF34 TMS_0, AF35 TCK_0, AG10 M1_0, AG11 M0_0, AG12 VCCO_0, AG34 TDO_0, AG35 TDI_0, AK11 CFGBVS_0, AK34 INIT_B_0
part P pins: A3 GND, A4 GND, A7 GND, A8 GND, A11 GND, A12 GND, A22 GND, A32 GND, A34 GND, A37 GND, A38 GND, A41 GND, A42 GND, AA13 VCCINT, AA15 VCCINT, AA17 VCCINT, AA19 VCCAUX_IO_G3, AA21 VCCINT, AA23 VCCINT, AA25 VCCBRAM, AA27 VCCAUX, AA29 VCCINT, AA31 VCCINT, AA33 VCCINT, AB12 VCCINT, AB14 VCCINT, AB16 VCCINT, AB18 VCCAUX, AB20 VCCINT, AB22 GNDADC_0, AB23 VCCADC_0, AB24 VCCBRAM, AB26 VCCAUX_IO_G1, AB28 VCCINT, AB30 VCCINT, AB32 VCCINT, AC13 VCCINT, AC15 VCCINT, AC17 VCCINT, AC19 VCCAUX_IO_G3, AC21 VCCINT, AC25 VCCBRAM, AC27 VCCAUX, AC29 VCCINT, AC31 VCCINT, AC33 VCCINT, AD12 VCCINT, AD14 VCCINT, AD16 VCCINT, AD18 VCCAUX, AD20 VCCINT, AD24 VCCBRAM, AD26 VCCAUX_IO_G0, AD28 VCCINT, AD30 VCCINT, AD32 VCCINT, AE13 VCCINT, AE15 VCCINT, AE17 VCCINT, AE19 VCCAUX_IO_G2, AE21 VCCINT, AE25 VCCBRAM, AE27 VCCAUX, AE29 VCCINT, AE31 VCCINT, AE33 VCCINT, AE35 VCCBATT_0, AF12 VCCINT, AF14 VCCINT, AF16 VCCINT, AF18 VCCAUX, AF20 VCCINT, AF22 VCCINT, AF24 VCCBRAM, AF26 VCCAUX_IO_G0, AF28 VCCINT, AF30 VCCINT, AF32 VCCINT, AG13 VCCINT, AG15 VCCINT, AG17 VCCINT, AG19 VCCAUX_IO_G2, AG21 VCCINT, AG23 VCCINT, AG25 VCCBRAM, AG27 VCCAUX, AG29 VCCINT, AG31 VCCINT, AG33 VCCINT, AH12 VCCINT, AH14 VCCINT, AH16 VCCINT, AH18 VCCAUX, AH20 VCCINT, AH22 VCCINT, AH24 VCCBRAM, AH26 VCCAUX_IO_G0, AH28 VCCINT, AH30 VCCINT, AH32 VCCINT, AJ15 VCCINT, AJ17 VCCINT, AJ19 VCCAUX_IO_G2, AJ27 VCCAUX, AJ33 VCCINT, B2 GND, B6 GND, B9 GND, B11 GND, B19 GND, B29 GND, B34 GND, B36 GND, B39 GND, B43 GND, C4 GND, C7 GND, C8 GND, C11 GND, C16 GND, C26 GND, C34 GND, C37 GND, C38 GND, C41 GND, D1 GND, D2 GND, D6 GND, D9 GND, D11 GND, D13 GND, D23 GND, D33 GND, D34 GND, D36 GND, D39 GND, D43 GND, D44 GND, E3 GND, E4 GND, E7 GND, E8 GND, E11 GND, E20 GND, E30 GND, E34 GND, E37 GND, E38 GND, E41 GND, E42 GND, F1 GND, F2 GND, F6 GND, F9 GND, F11 GND, F17 GND, F27 GND, F34 GND, F36 GND, F39 GND, F43 GND, F44 GND, G4 GND, G7 GND, G8 GND, G11 GND, G14 GND, G24 GND, G34 GND, G37 GND, G38 GND, G41 GND, H1 GND, H2 GND, H6 GND, H9 GND, H11 GND, H21 GND, H31 GND, H34 GND, H36 GND, H39 GND, H43 GND, H44 GND, J3 GND, J4 GND, J7 GND, J8 GND, J11 GND, J18 GND, J28 GND, J34 GND, V12 VCCINT, V14 VCCINT, V18 VCCAUX, V20 VCCINT, V22 VCCINT, V24 VCCBRAM, V26 VCCAUX_IO_G1, V28 VCCINT, V30 VCCINT, V32 VCCINT, W13 VCCINT, W15 VCCINT, W17 VCCINT, W19 VCCAUX_IO_G3, W21 VCCINT, W23 VCCINT, W25 VCCBRAM, W27 VCCAUX, W29 VCCINT, W31 VCCINT, W33 VCCINT, Y12 VCCINT, Y14 VCCINT, Y16 VCCINT, Y18 VCCAUX, Y20 VCCINT, Y22 VCCINT, Y24 VCCBRAM, Y26 VCCAUX_IO_G1, Y28 VCCINT, Y30 VCCINT, Y32 VCCINT
part Q pins: AA3 GND, AA4 GND, AA7 GND, AA11 GND, AA12 GND, AA14 GND, AA16 GND, AA18 GND, AA20 GND, AA22 GND, AA24 GND, AA26 GND, AA28 GND, AA30 GND, AA32 GND, AA34 GND, AA38 GND, AA41 GND, AA42 GND, AB1 GND, AB2 GND, AB6 GND, AB9 GND, AB10 GND, AB11 GND, AB13 GND, AB15 GND, AB17 GND, AB19 GND, AB21 GND, AB25 GND, AB27 GND, AB29 GND, AB31 GND, AB33 GND, AB34 GND, AB35 GND, AB36 GND, AB39 GND, AB43 GND, AB44 GND, AC4 GND, AC8 GND, AC11 GND, AC12 GND, AC14 GND, AC16 GND, AC18 GND, AC20 GND, AC24 GND, AC26 GND, AC28 GND, AC30 GND, AC32 GND, AC34 GND, AC37 GND, AC41 GND, AD1 GND, AD2 GND, AD6 GND, AD9 GND, AD10 GND, AD11 GND, AD13 GND, AD15 GND, AD17 GND, AD19 GND, AD21 GND, AD25 GND, AD27 GND, AD29 GND, AD31 GND, AD33 GND, AD34 GND, AD35 GND, AD36 GND, AD39 GND, AD43 GND, AD44 GND, AE3 GND, AE4 GND, AE7 GND, AE9 GND, AE14 GND, AE16 GND, AE18 GND, AE20 GND, AE24 GND, AE26 GND, AE28 GND, AE30 GND, AE32 GND, AE36 GND, AE38 GND, AE41 GND, AE42 GND, AF1 GND, AF2 GND, AF6 GND, AF9 GND, AF11 GND, AF13 GND, AF15 GND, AF17 GND, AF19 GND, AF21 GND, AF23 GND, AF25 GND, AF27 GND, AF29 GND, AF31 GND, AF33 GND, AF36 GND, AF39 GND, AF43 GND, AF44 GND, AG4 GND, AG7 GND, AG9 GND, AG14 GND, AG16 GND, AG18 GND, AG20 GND, AG22 GND, AG24 GND, AG26 GND, AG28 GND, AG30 GND, AG32 GND, AG36 GND, AG38 GND, AG41 GND, AH1 GND, AH2 GND, AH6 GND, AH9 GND, AH10 GND, AH11 GND, AH13 GND, AH15 GND, AH17 GND, AH19 GND, AH21 GND, AH23 GND, AH25 GND, AH27 GND, AH29 GND, AH31 GND, AH33 GND, AH34 GND, J37 GND, J38 GND, J41 GND, J42 GND, K1 GND, K2 GND, K6 GND, K9 GND, K11 GND, K15 GND, K25 GND, K34 GND, K36 GND, K39 GND, K43 GND, K44 GND, L4 GND, L7 GND, L8 GND, L11 GND, L12 GND, L22 GND, L32 GND, L34 GND, L37 GND, L38 GND, L41 GND, M1 GND, M2 GND, M6 GND, M9 GND, M11 GND, M19 GND, M29 GND, M34 GND, M36 GND, M39 GND, M43 GND, M44 GND, N3 GND, N4 GND, N7 GND, N8 GND, N11 GND, N16 GND, N26 GND, N34 GND, N37 GND, N38 GND, N41 GND, N42 GND, P1 GND, P2 GND, P6 GND, P9 GND, P11 GND, P13 GND, P23 GND, P33 GND, P34 GND, P36 GND, P39 GND, P43 GND, P44 GND, R4 GND, R7 GND, R11 GND, R20 GND, R30 GND, R34 GND, R38 GND, R41 GND, T1 GND, T2 GND, T6 GND, T9 GND, T11 GND, T17 GND, T27 GND, T34 GND, T36 GND, T39 GND, T43 GND, T44 GND, U3 GND, U4 GND, U7 GND, U11 GND, U14 GND, U24 GND, U34 GND, U38 GND, U41 GND, U42 GND, V1 GND, V2 GND, V6 GND, V9 GND, V11 GND, V13 GND, V17 GND, V19 GND, V21 GND, V23 GND, V25 GND, V27 GND, V29 GND, V31 GND, V33 GND, V34 GND, V36 GND, V39 GND, V43 GND, V44 GND, W4 GND, W7 GND, W11 GND, W12 GND, W14 GND, W16 GND, W18 GND, W20 GND, W22 GND, W24 GND, W26 GND, W28 GND, W30 GND, W32 GND, W34 GND, W38 GND, W41 GND, Y1 GND, Y2 GND, Y6 GND, Y9 GND, Y11 GND, Y13 GND, Y15 GND, Y17 GND, Y19 GND, Y21 GND, Y23 GND, Y25 GND, Y27 GND, Y29 GND, Y31 GND, Y33 GND, Y34 GND, Y36 GND, Y39 GND, Y43 GND, Y44 GND
part R pins: AH35 GND, AH36 GND, AH39 GND, AH43 GND, AH44 GND, AJ4 GND, AJ8 GND, AJ11 GND, AJ12 GND, AJ18 GND, AJ20 GND, AJ24 GND, AJ28 GND, AJ34 GND, AJ37 GND, AJ41 GND, AK1 GND, AK2 GND, AK5 GND, AK6 GND, AK9 GND, AK10 GND, AK15 GND, AK25 GND, AK35 GND, AK36 GND, AK39 GND, AK40 GND, AK43 GND, AK44 GND, AL4 GND, AL7 GND, AL11 GND, AL12 GND, AL22 GND, AL32 GND, AL34 GND, AL38 GND, AL41 GND, AM1 GND, AM2 GND, AM6 GND, AM9 GND, AM11 GND, AM19 GND, AM29 GND, AM34 GND, AM36 GND, AM39 GND, AM43 GND, AM44 GND, AN3 GND, AN4 GND, AN7 GND, AN11 GND, AN16 GND, AN26 GND, AN34 GND, AN38 GND, AN41 GND, AN42 GND, AP1 GND, AP2 GND, AP6 GND, AP9 GND, AP11 GND, AP13 GND, AP23 GND, AP33 GND, AP34 GND, AP36 GND, AP39 GND, AP43 GND, AP44 GND, AR4 GND, AR7 GND, AR11 GND, AR20 GND, AR30 GND, AR34 GND, AR38 GND, AR41 GND, AT1 GND, AT2 GND, AT6 GND, AT9 GND, AT10 GND, AT11 GND, AT17 GND, AT27 GND, AT34 GND, AT35 GND, AT36 GND, AT39 GND, AT43 GND, AT44 GND, AU3 GND, AU4 GND, AU7 GND, AU9 GND, AU14 GND, AU24 GND, AU34 GND, AU36 GND, AU38 GND, AU41 GND, AU42 GND, AV1 GND, AV2 GND, AV6 GND, AV9 GND, AV11 GND, AV21 GND, AV31 GND, AV36 GND, AV39 GND, AV43 GND, AV44 GND, AW4 GND, AW7 GND, AW9 GND, AW18 GND, AW28 GND, AW36 GND, AW38 GND, AW41 GND, AY1 GND, AY2 GND, AY6 GND, AY9 GND, AY15 GND, AY25 GND, AY35 GND, AY36 GND, AY39 GND, AY43 GND, AY44 GND, BA3 GND, BA4 GND, BA7 GND, BA9 GND, BA12 GND, BA22 GND, BA32 GND, BA36 GND, BA38 GND, BA41 GND, BA42 GND, BB1 GND, BB2 GND, BB6 GND, BB9 GND, BB19 GND, BB29 GND, BB36 GND, BB39 GND, BB43 GND, BB44 GND, BC2 GND, BC4 GND, BC7 GND, BC9 GND, BC16 GND, BC26 GND, BC36 GND, BC38 GND, BC41 GND, BC43 GND, BD5 GND, BD6 GND, BD9 GND, BD13 GND, BD23 GND, BD33 GND, BD36 GND, BD39 GND, BD40 GND

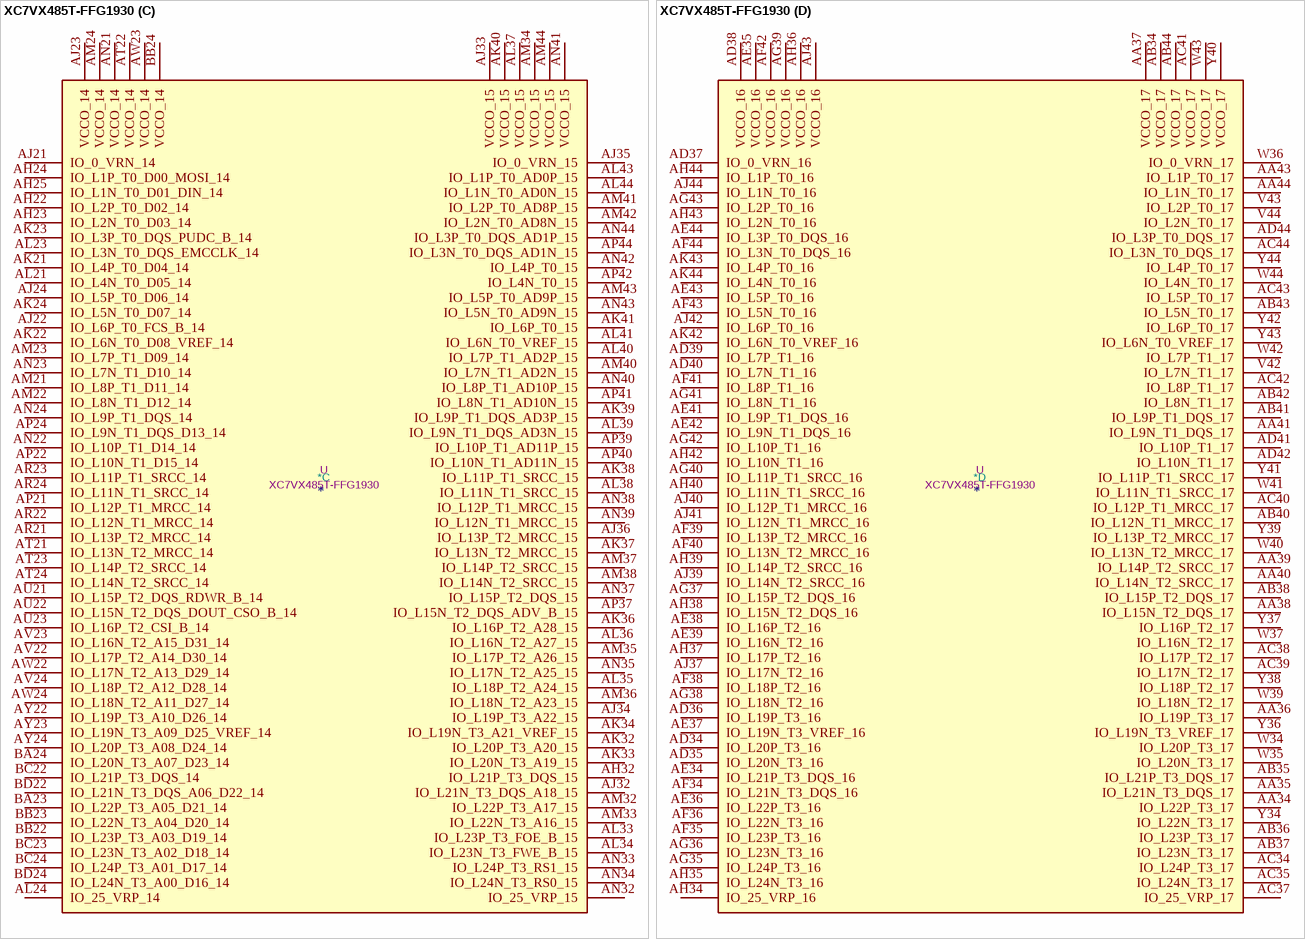
[diagram p92: symbol XC7VX485T-FFG1930]

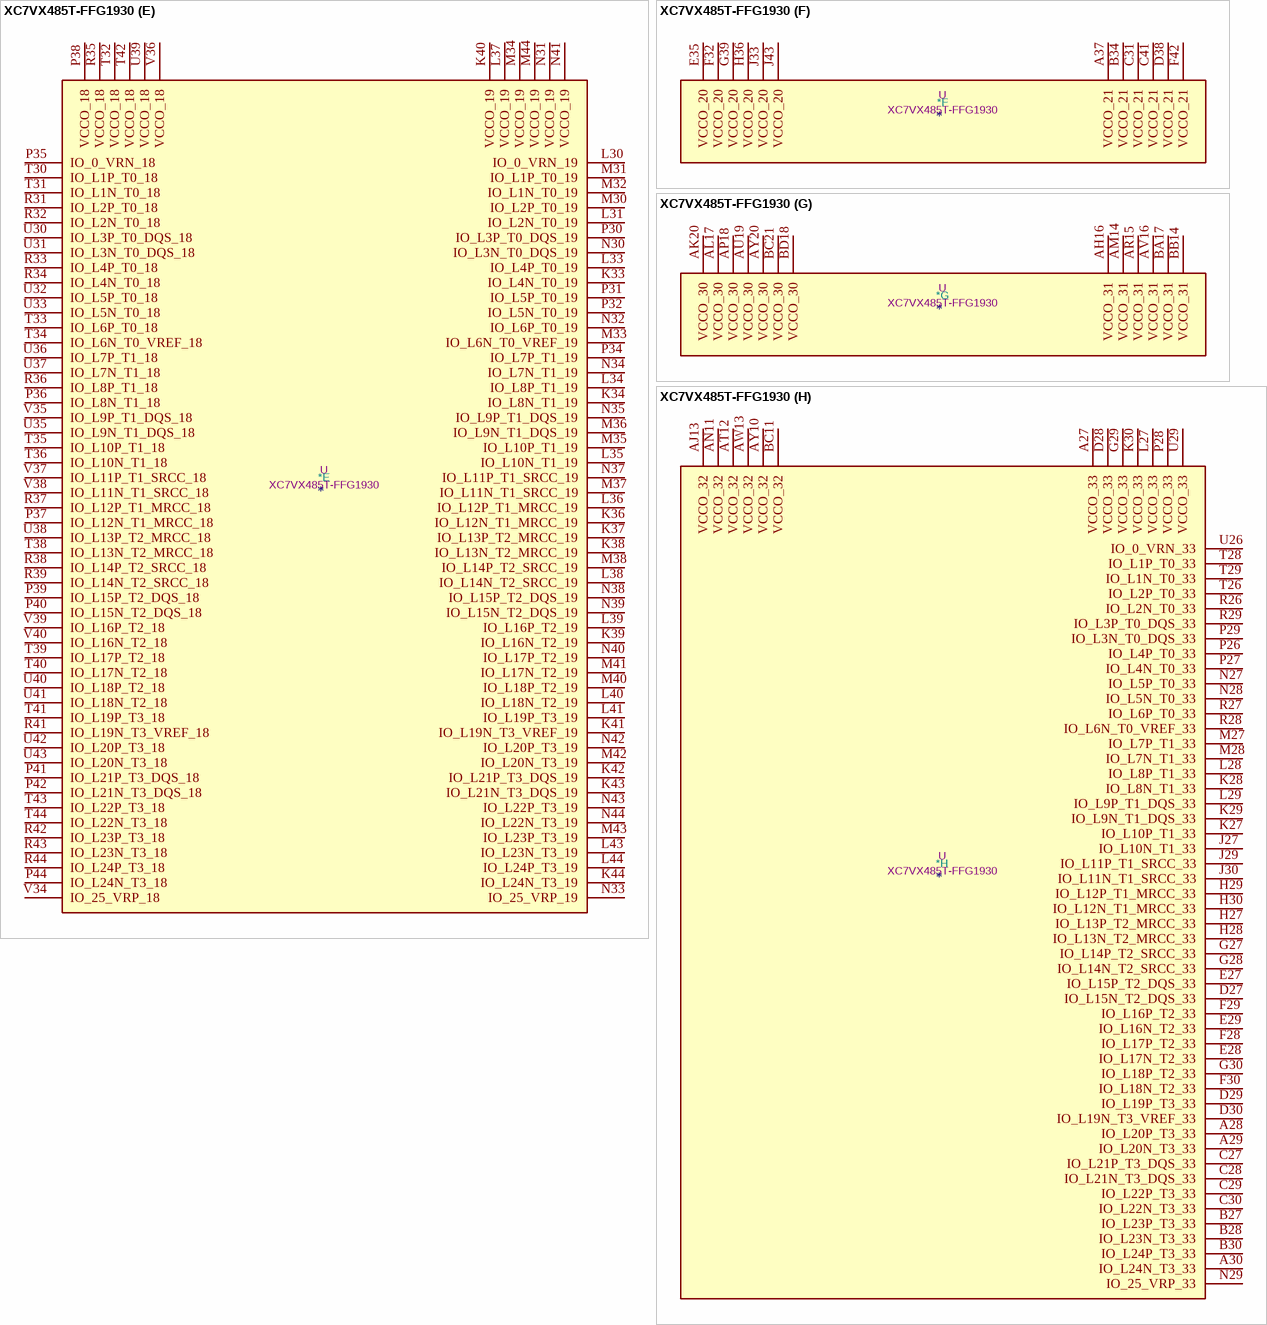
[diagram p93: symbol XC7VX485T-FFG1930]

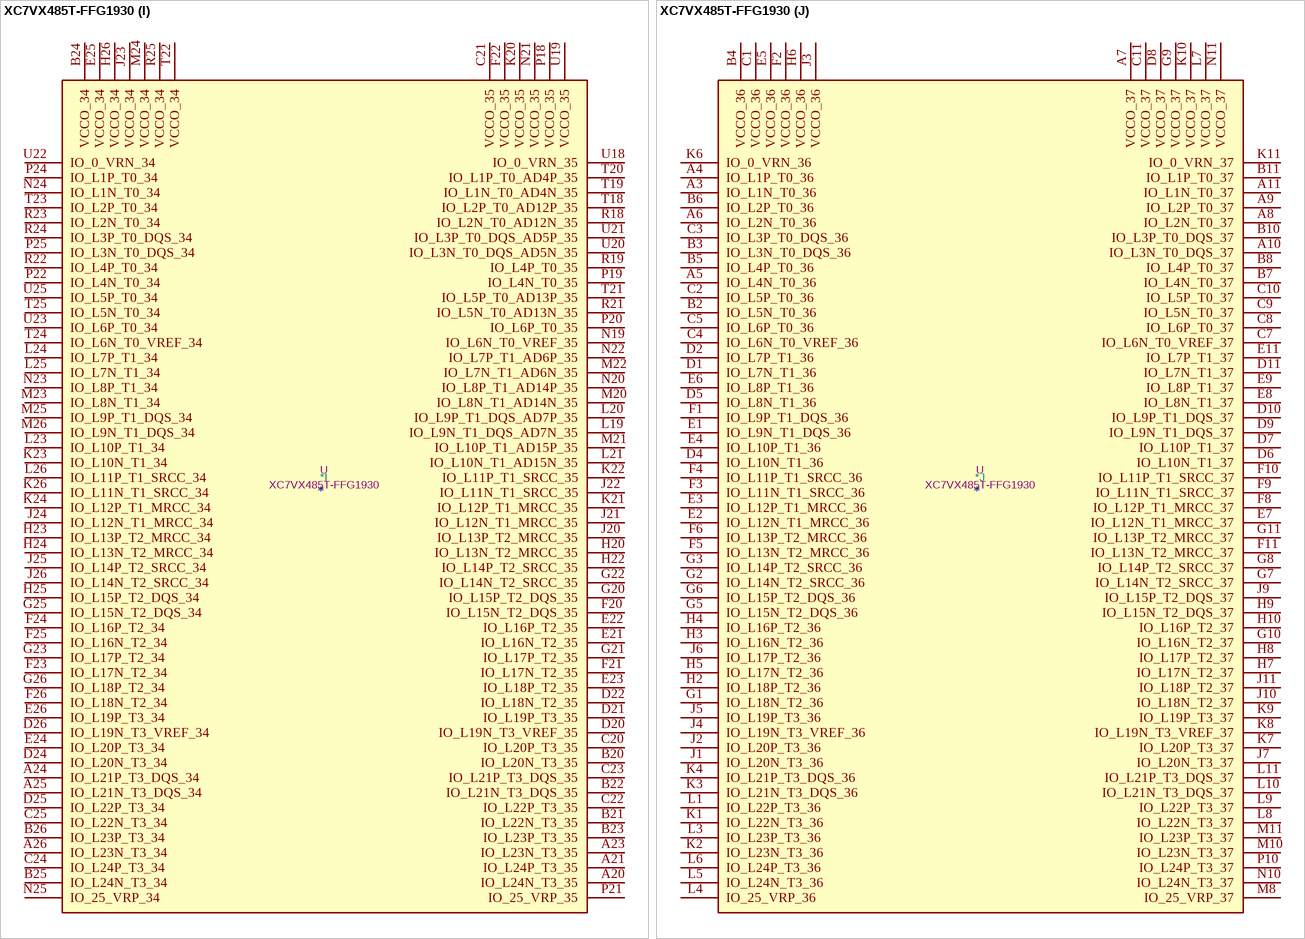
[diagram p94: symbol XC7VX485T-FFG1930]

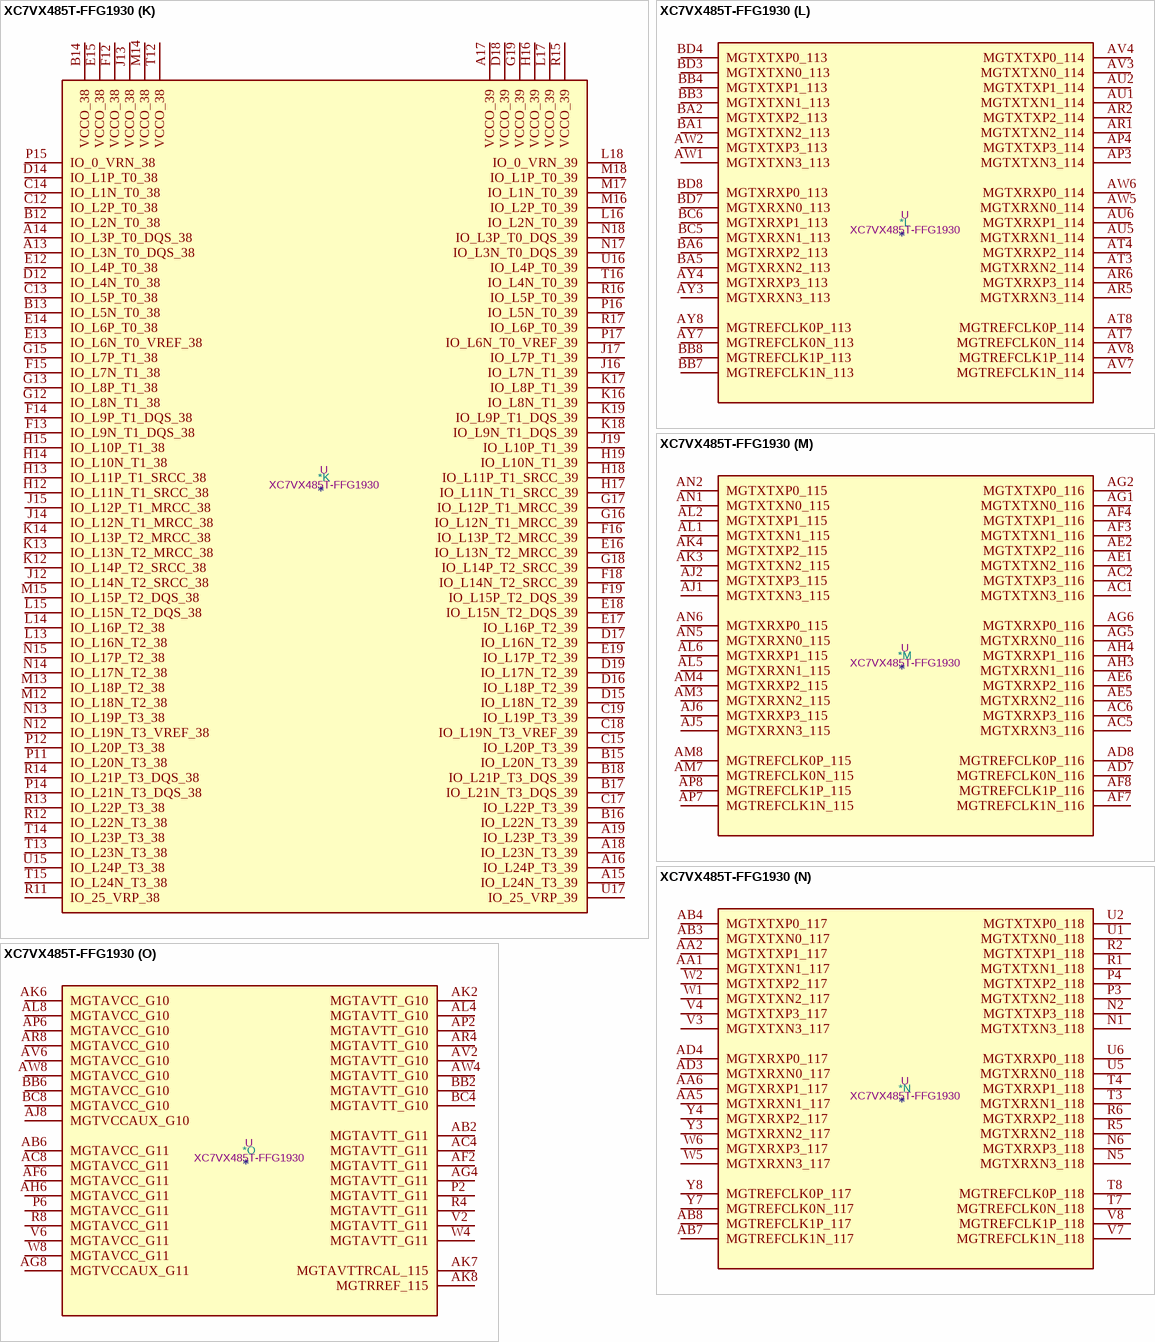
[diagram p95: symbol XC7VX485T-FFG1930]

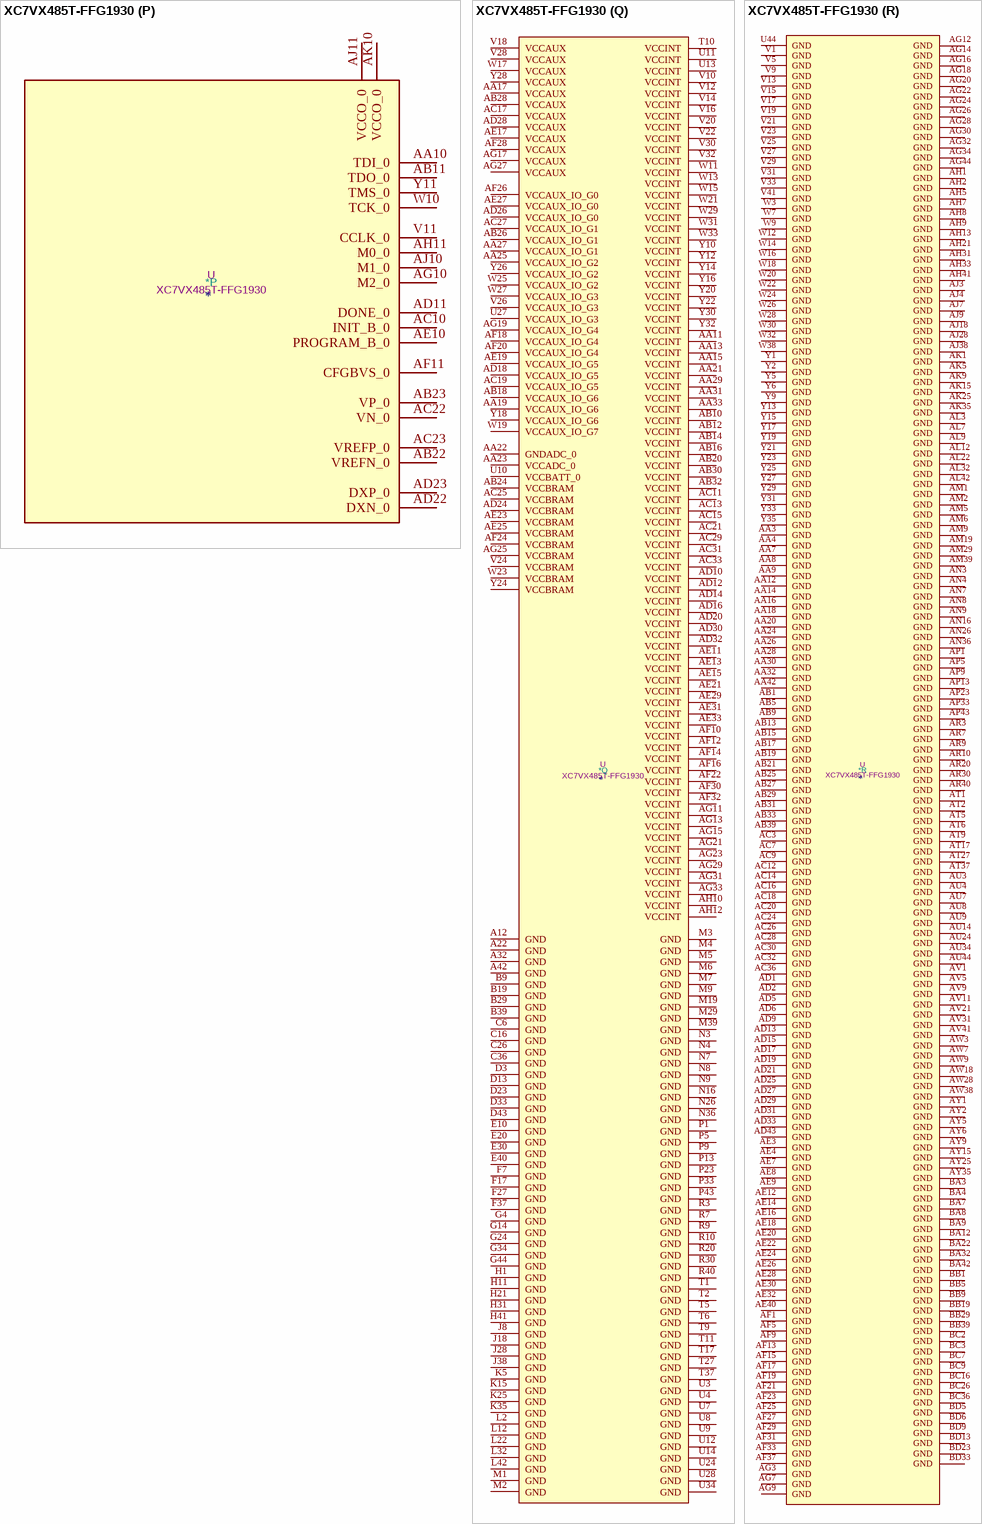
[diagram p96: symbol XC7VX485T-FFG1930]